# Altium schematic symbol library SCH - POWER - SWITCHMODE - TI TPS65146_RGE_24.SchLib: 1 symbol
Pins are listed as number, name and electrical type; pins without a type are passive.

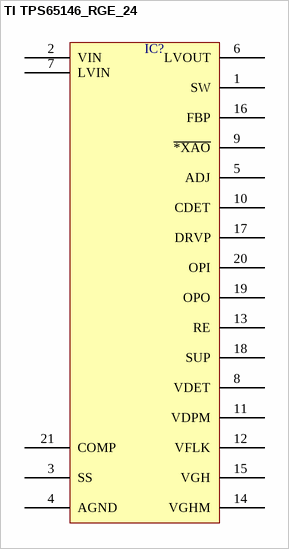
[diagram p0: symbol TI TPS65146_RGE_24]

## TI TPS65146_RGE_24
designator IC?  (value not drawn)
pins: 1 SW, 2 VIN, 3 SS, 4 AGND, 5 ADJ, 6 LVOUT, 7 LVIN, 8 VDET, 9 ~{*XAO}, 10 CDET, 11 VDPM, 12 VFLK, 13 RE, 14 VGHM, 15 VGH, 16 FBP, 17 DRVP, 18 SUP, 19 OPO, 20 OPI, 21 COMP